# Altium schematic symbol library P4002.SchLib: 1 symbol
Pins are listed as number, name and electrical type; pins without a type are passive.

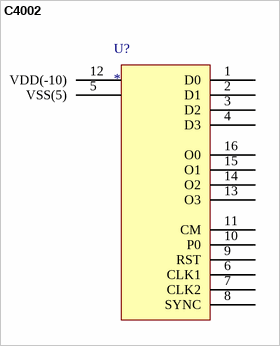
[diagram p0: symbol C4002]

## C4002
designator U?
footprint P4002
pins: 1 D0, 2 D1, 3 D2, 4 D3, 5 VSS(5), 6 CLK1, 7 CLK2, 8 SYNC, 9 RST, 10 P0, 11 CM, 12 VDD(-10), 13 O3, 14 O2, 15 O1, 16 O0